# Altium footprint library STM32F103.PcbLib: 1 footprints
Each footprint in its own frame and in the unit in brackets; x right, y up, seen from the top. Pads: shape width x height; smd on the part's side, far side on the other; paste and mask are expansions set on the pad; w line width, h text height; cw(c..) or ccw(c..) is an arc to the next point about the centre after c.
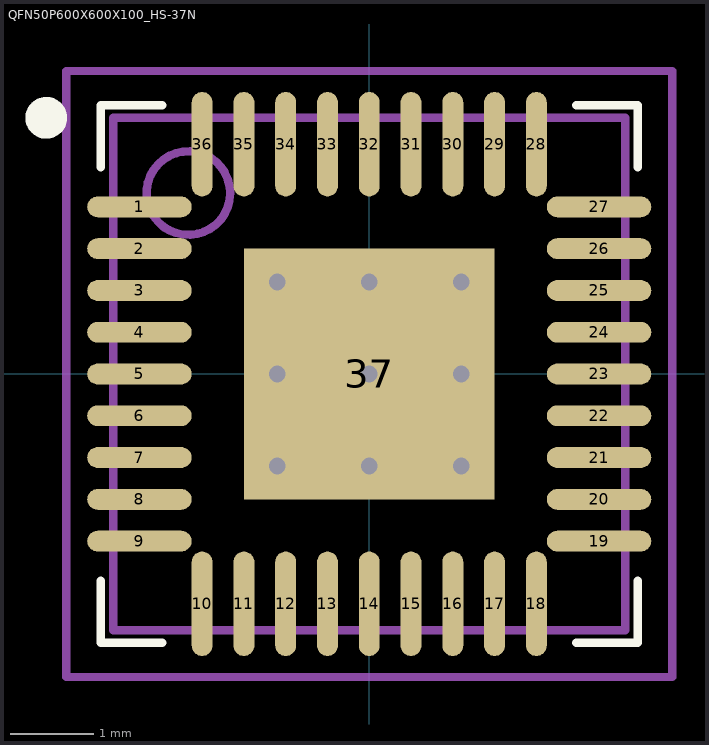
[diagram p0: the footprint, top view; thin cyan lines are the x and y axes]

## QFN50P600X600X100_HS-37N [mm] "QFN, 36-Leads, Body 6,00x6,00mm, Pitch 0,50mm, Thermal Pad 3,00x3,00mm, IPC Medium Density"
height 1
pads (37):
  oval 1.25x0.25 smd: 1(-2.75,2) 2(-2.75,1.5) 3(-2.75,1) 4(-2.75,0.5) 5(-2.75,0) 6(-2.75,-0.5) 7(-2.75,-1) 8(-2.75,-1.5) 9(-2.75,-2) 19(2.75,-2) 20(2.75,-1.5) 21(2.75,-1) 22(2.75,-0.5) 23(2.75,0) 24(2.75,0.5) 25(2.75,1) 26(2.75,1.5) 27(2.75,2)
  oval 0.25x1.25 smd: 10(-2,-2.75) 11(-1.5,-2.75) 12(-1,-2.75) 13(-0.5,-2.75) 14(0,-2.75) 15(0.5,-2.75) 16(1,-2.75) 17(1.5,-2.75) 18(2,-2.75) 28(2,2.75) 29(1.5,2.75) 30(1,2.75) 31(0.5,2.75) 32(0,2.75) 33(-0.5,2.75) 34(-1,2.75) 35(-1.5,2.75) 36(-2,2.75)
  rect 3x3 smd: 37(0,0)
via -1.1,1.1 diameter 0.5 hole 0.2
via 0,1.1 diameter 0.5 hole 0.2
via 1.1,1.1 diameter 0.5 hole 0.2
via -1.1,0 diameter 0.5 hole 0.2
via 0,0 diameter 0.5 hole 0.2
via 1.1,0 diameter 0.5 hole 0.2
via -1.1,-1.1 diameter 0.5 hole 0.2
via 0,-1.1 diameter 0.5 hole 0.2
via 1.1,-1.1 diameter 0.5 hole 0.2
Top Overlay:
  circle w0.25: c-3.865,3.065 r0.125
  lines w0.1: -3.215,-2.475 -3.215,-3.215 -2.475,-3.215 ; -3.215,2.475 -3.215,3.215 -2.475,3.215 ; 2.475,-3.215 3.215,-3.215 3.215,-2.475 ; 2.475,3.215 3.215,3.215 3.215,2.475
Mechanical 1:
  circle w0.1: c-2.165,2.165 r0.5
  lines w0.1: -3.065,-3.065 -3.065,3.065 3.065,3.065 3.065,-3.065 -3.065,-3.065
Mechanical 3:
  lines w0.1: -0.5,0 0.5,0 ; 0,-0.5 0,0.5 ; -3.625,-3.625 -3.625,3.625 3.625,3.625 3.625,-3.625 -3.625,-3.625
3D body: height 1, standoff 0.02, extent -3.082,-3.082 3.048,3.048